# Altium footprint library 2.Capasitors.PcbLib: 33 footprints (part 2 of 3)
Each footprint in its own frame and in the unit in brackets; x right, y up, seen from the top. Pads: shape width x height; smd on the part's side, far side on the other; paste and mask are expansions set on the pad; w line width, h text height; cw(c..) or ccw(c..) is an arc to the next point about the centre after c.
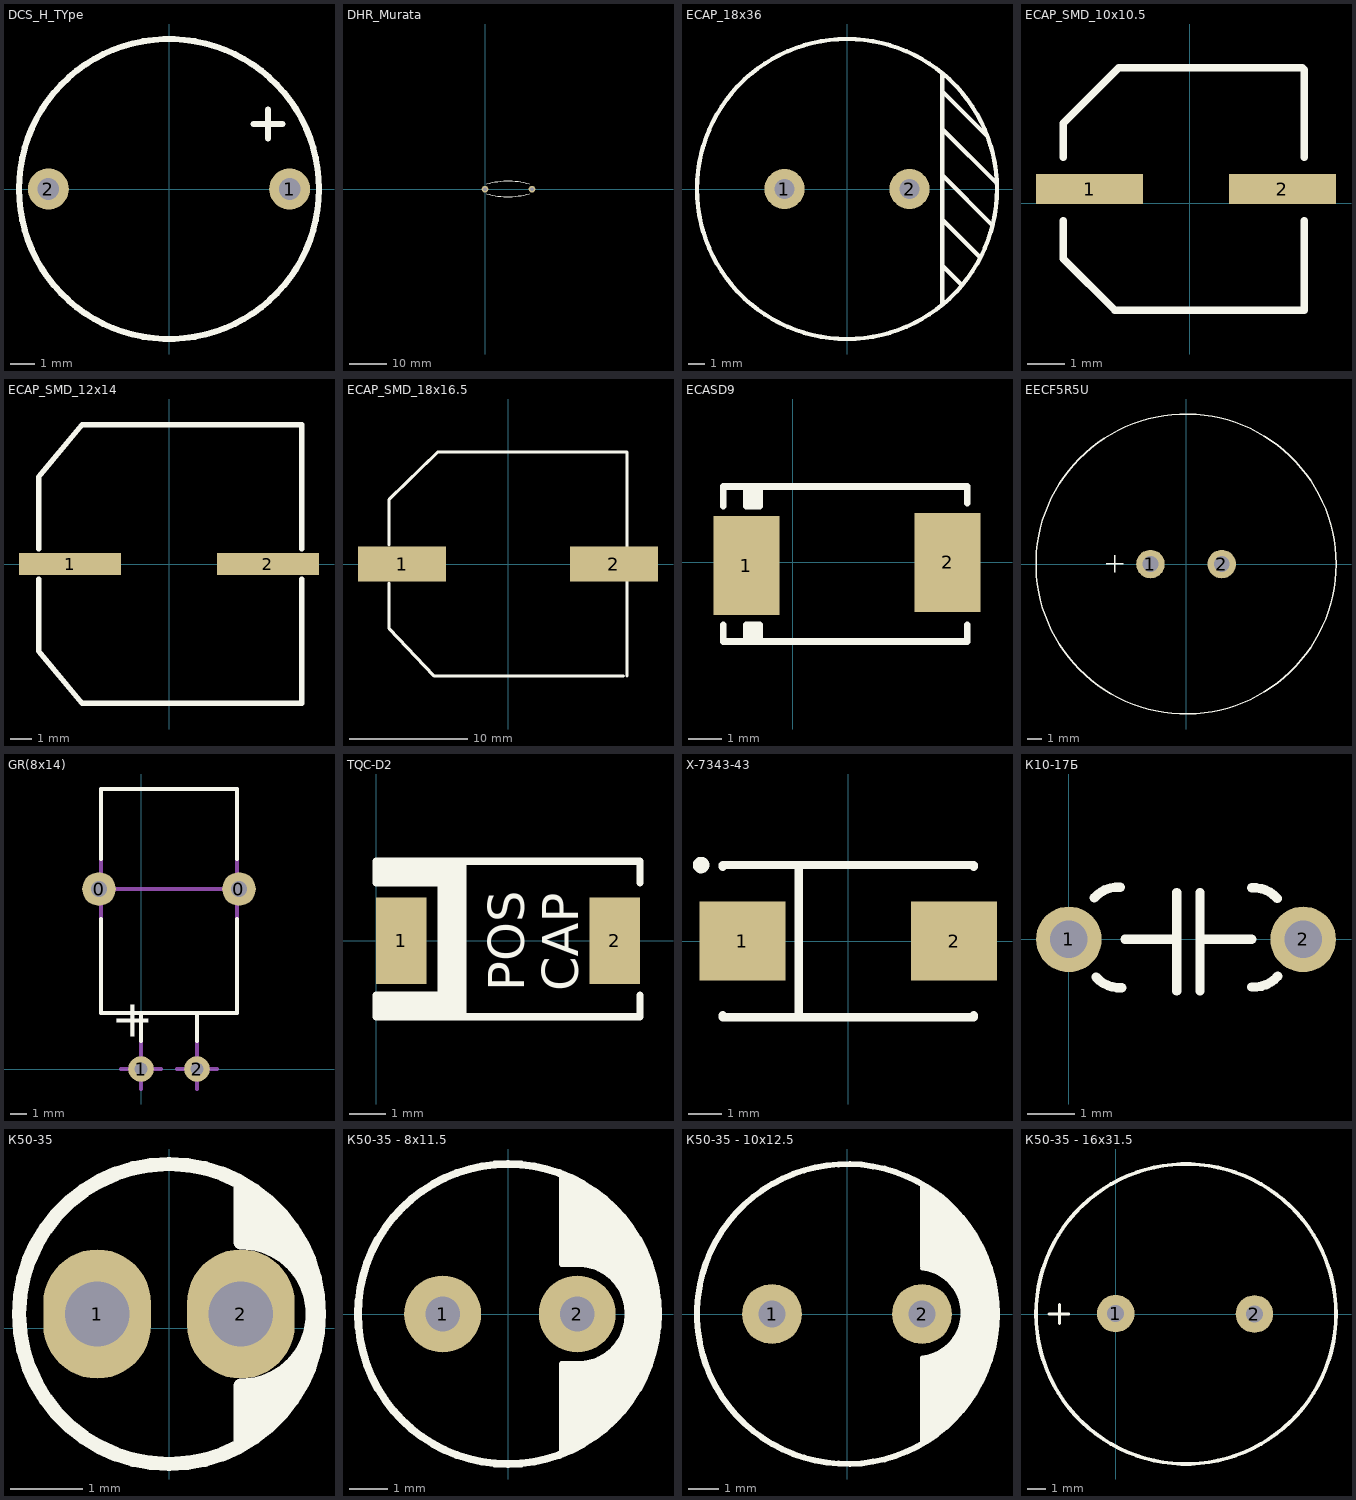
[diagram p1: the footprints below, top view; thin cyan lines are the x and y axes]

## DCS_H_TYpe [mm]
pads (2):
  round 1.7 hole 0.9: 1(5,0) 2(-5,0)
Top Overlay:
  circle w0.254: c0,0 r6.217
  lines w0.254: 3.5,2.7 4.7,2.7 ; 4.1,2.1 4.1,3.3
3D body: height 2.8, standoff 0.3, extent -5.75,-5.75 5.75,5.75

## DHR_Murata [mm]
pads (2):
  round 1.8 hole 1: 1(0,0) 2(12.7,0)
Top Overlay:
  lines w0.2: 0.4,1.3 cw(c6.231,-19.209) 12.009,1.315 ; 0.422,-1.224 ccw(c6.2,19.3) 12.031,-1.209
3D body "User Library-DEBB33A472KA3B.step": height 16, standoff -3, extent 0.3,-2.089 12.3,1.89

## ECAP_18x36 [mm]
pads (2):
  round 2.4 hole 1.2: 1(-3.75,0) 2(3.75,0)
Top Overlay:
  circle w0.254: c0,0 r9
  lines w0.254: 5.715,-6.951 5.715,6.953 ; 5.715,-4.398 5.715,-4.6 6.894,-5.779 ; 5.715,-2.669 5.715,-2.515 5.715,-1.779 5.715,-1.835 8.001,-4.121 ; 5.715,1.253 5.715,0.832 8.731,-2.184 ; 5.715,3.7 5.715,3.602 8.994,0.322 ; 5.715,4.119 5.715,4.389 ; 5.715,6.284 5.715,5.903 5.715,5.85 5.734,5.85 8.429,3.156
3D body "User Library-Cap-EL(18x36-7_5)T.STEP": height 37, standoff -3, extent -9,-9 9.002,9

## ECAP_SMD_10x10.5 [mm]
pads (2):
  rect 2.85x0.8 smd: 1(-2.667,0.381) 2(2.458,0.381)
Top Overlay:
  lines w0.2: -3.367,-0.469 -3.367,-1.469 -1.992,-2.844 3.033,-2.844 3.033,-0.469 ; -3.367,1.231 -3.367,2.131 -1.892,3.606 2.983,3.606 3.033,3.556 3.033,1.231
3D body "User Library-capacitor size D.STEP": height 5.41, standoff -0.01, extent -3.642,-2.969 3.358,3.631

## ECAP_SMD_12x14 [mm]
pads (2):
  rect 4.7x1 smd: 1(-4.55,0) 2(4.55,0)
Top Overlay:
  lines w0.254: -6,-0.7 -6,-4 -4,-6.4 6.1,-6.4 6.1,-0.7 ; -6,0.7 -6,4 -4,6.4 6.1,6.4 6.1,0.7
3D body "User Library-capasitores electroliticos.step": height 14.05, standoff 0, extent -6.8,-6.4 6.8,6.4

## ECAP_SMD_18x16.5 [mm]
pads (2):
  rect 7.5x3 smd: 1(-9,0) 2(9,0)
Top Overlay:
  lines w0.254: -10.1,-1.6 -10.1,-5.5 -6.3,-9.5 9.8,-9.5 ; -10.1,1.6 -10.1,5.5 -6,9.5 10.1,9.5 10.1,1.5 ; 10.1,-9.5 10.1,-1.5
3D body "User Library-CAP-EL_K21.STEP": height 21.01, standoff 0.01, extent -10.05,-9.5 10.05,9.5

## ECASD9 [mm]
pads (2):
  rect 2x3 smd: 1(-1.4,-0.1) 2(4.7,0)
Top Overlay:
  lines w0.2: -2.1,-1.9 -2.1,-2.4 5.3,-2.4 5.3,-1.9 ; -2.1,1.7 -2.1,2.3 5.3,2.3 5.3,1.8 ; -1.4,-2.4 -1.4,-1.9 -1.2,-1.9 ; -1.4,2.3 -1.4,1.7 -1.2,1.7 ; -1,-2.4 -1,-1.9 -1.2,-1.9 ; -1,2.2 -1,1.7 -1.2,1.7 ; -1.2,-1.9 -1.2,-2.4 -1.2,-1.9 ; -1.2,1.7 -1.2,2.2 -1.2,1.7
3D body "User Library-AVX_E_CASE.step": height 4.2, standoff 0, extent -2.1,-2.225 5.3,2.225

## EECF5R5U [mm]
pads (2):
  round 2 hole 1.1: 1(-2.5,0) 2(2.5,0)
Top Overlay:
  circle w0.1: c-0.008,0.005 r10.525
  lines w0.1: -5.6,0.025 -4.4,0.025 ; -5.002,-0.577 -5.002,0.623
3D body "User Library-Ionistor.step": height 8.01, standoff -6, extent -10.75,-10.75 10.76,10.75

## GR(8x14) [mm] "Проволока ММ-0,8 ТУ 16-705.492-2005 // Трубка ТВ-40,5 белая высшего сорта ГОСТ 19034-82// SNV"
height 10
pads (4):
  round 2.1 hole 1: 0(-2.625,11.25) 0(6.125,11.25)
  round 1.6 hole 0.8: 1(0,0) 2(3.5,0)
Top Overlay:
  lines w0.25: -2.5,9.375 -2.5,3.5 6,3.5 6,9.375 ; -2.5,13.125 -2.5,17.5 6,17.5 6,13.125 ; 0,1.75 0,3.5 ; 3.5,1.75 3.5,3.5
  text "+" at -1.875,1.25 h4
Mechanical 1:
  lines w0.25: -2.5,11.25 6,11.25 ; -1.25,0 1.25,0 ; 0,-1.25 0,0 0,3.5 ; 2.25,0 4.75,0 ; 3.5,-1.25 3.5,1.25 ; 3.5,0 3.5,3.5 ; -2.5,3.5 6,3.5 6,17.5 -2.5,17.5 -2.5,3.5
  text "+" at -1.875,0.625 h4
3D body "GR 8x12.STEP": height 9.85, standoff -2.4, extent -3.489,-0.3 6.989,17.5

## TQC-D2 [mm]
pads (2):
  rect 1.4x2.4 smd: 1(0.7,0) 2(6.6,0)
Top Overlay:
  rectangle: 1.7,-2.1 2.5,2.2
  rectangle: 0,1.5 2,2.2
  rectangle: 0,-2.1 2,-1.4
  lines w0.2: 0,-1.5 0,-2.1 7.3,-2.1 7.3,-1.5 ; 0,1.6 0,2.2 7.3,2.2 7.3,1.6
  text "POS / CAP" at 5.6,-1.4 h1
3D body "36307.stp": height 3.1, standoff 0.1, extent -0.05,-2.1 7.25,2.2

## X-7343-43 [mm] "Capacitor, SM Tantalum; Body 7.3 x 4.3 mm (LxW typ)"
height 4.3
pads (2):
  rect 2.6x2.4 smd: 1(-3.2,0) 2(3.2,0)
Top Overlay:
  circle w0.25: c-4.45,2.3 r0.125
  lines w0.254: -3.8,-2.25 -3.8,-2.3 3.8,-2.3 3.8,-2.25 ; -3.8,2.25 -3.8,2.3 3.8,2.3 3.8,2.25 ; -1.5,-2.3 -1.5,2.3
3D body "X-7343-43.STEP": height 3.91, standoff -0.04, extent -4.498,-2.316 4.498,2.337

## К10-17Б [mm]
pads (2):
  round 1.4 hole 0.8: 1(0,0) 2(5,0)
Top Overlay:
  lines w0.2: 0.546,0.887 cw(c1.05,0.45) 1.094,1.116 ; 0.581,-0.803 ccw(c1.083,-0.364) 1.13,-1.029 ; 1.2,0 2.2,0 ; 2.3,-1.1 2.3,1 ; 2.8,-1.1 2.8,1 ; 2.9,0 3.9,0 ; 3.9,1.1 cw(c3.944,0.434) 4.448,0.871 ; 3.906,-1.016 ccw(c3.95,-0.35) 4.454,-0.787
3D body "User Library-caprr500w50l400t250h654.step": height 6.54, standoff -2.5, extent -0.25,-1.3 5.25,1.2

## К50-35 [mm]
pads (2):
  oval 1.5x1.8 hole 0.9: 1(-1,0.2) 2(1,0.2)
Top Overlay:
  circle w0.2: c0,0.2 r2.088
  lines w0.2: 1,-1.6 1,-0.8 ccw(c1.005,0.2) 1,1.2 1,2 ; 1.1,-0.9 1.8,-0.5 1.4,-1.2 1.1,-1.5 1.1,-1 1.2,-1.2 1.5,-0.8 1.2,-1 ; 1.2,1.9 1.8,0.9 1.1,1.4 1.1,1.8 1.4,1.3
3D body "User Library-NICHICON_ USA1C100MCA_10MF_16V_RADIAL_Alumium Electrolytic Capacitor.step": height 7.49, standoff -1.99, extent -2.108,-1.908 2.108,2.308

## К50-35 - 8x11.5 [mm]
pads (2):
  round 2 hole 0.9: 1(-1.7,0) 2(1.8,0)
Top Overlay:
  circle w0.2: c0,0 r3.9
  region: 1.425,-1.325 1.905,-1.325 2.022,-1.319 2.252,-1.274 2.468,-1.184 2.663,-1.054 2.75,-0.975 2.834,-0.882 2.974,-0.673 3.07,-0.441 3.119,-0.195 3.125,-0.07 3.125,0.1 3.12,0.195 3.083,0.38 3.011,0.555 2.906,0.713 2.842,0.783 2.475,1.15 2.444,1.178 2.374,1.225 2.297,1.257 2.215,1.273 2.173,1.275 1.4,1.325 1.372,3.328 1.383,3.347 1.399,3.389 1.406,3.433 1.404,3.478 1.4,3.5 1.412,3.512 1.44,3.531 1.471,3.543 1.504,3.55 1.521,3.55 1.616,3.55 1.804,3.513 1.981,3.441 2.14,3.335 2.208,3.267 3.316,2.159 3.354,2.121 3.413,2.032 3.454,1.933 3.475,1.829 3.475,1.775 3.54,1.71 3.643,1.556 3.714,1.385 3.75,1.204 3.75,1.111 3.75,0.95 3.774,0.926 3.811,0.87 3.837,0.808 3.85,0.742 3.85,0.709 3.85,-0.73 3.85,-0.848 3.804,-1.079 3.714,-1.296 3.583,-1.492 3.5,-1.575 3.5,-1.664 3.465,-1.839 3.397,-2.004 3.298,-2.152 3.235,-2.215 2.261,-3.189 2.181,-3.269 1.993,-3.394 1.784,-3.481 1.563,-3.525 1.45,-3.525
  lines w0.15: 1.4,-3.6 1.4,-1.3 1.83,-1.3 ccw(c1.83,-0.03) 3.1,-0.03 3.1,0.03 ccw(c1.83,0.03) 1.83,1.3 1.4,1.3 1.4,3.6
3D body "User Library-Cap-EL(8x11_5-3_5).step": height 11.5, standoff -3.3, extent -4,-3.998 4.002,3.998

## К50-35 - 10x12.5 [mm]
pads (2):
  round 2 hole 0.9: 1(-2.5,0) 2(2.5,0)
Top Overlay:
  circle w0.2: c0,0 r5
  region: 2.494,-1.4 3.1,-1.3 3.2,-1.254 3.383,-1.133 3.539,-0.978 3.659,-0.795 3.705,-0.695 3.755,-0.632 3.835,-0.492 3.884,-0.34 3.903,-0.18 3.9,-0.1 3.9,0.299 3.881,0.399 3.815,0.592 3.713,0.767 3.578,0.92 3.5,0.985 3.481,1.028 3.438,1.111 3.388,1.19 3.331,1.265 3.3,1.3 2.494,1.5 2.494,4.2 2.631,4.201 2.898,4.139 3.144,4.018 3.355,3.843 3.438,3.734 4.169,2.7 4.265,2.587 4.425,2.336 4.548,2.066 4.634,1.782 4.657,1.635 4.69,1.58 4.742,1.462 4.777,1.338 4.794,1.211 4.794,1.146 4.794,0.985 4.818,0.962 4.855,0.906 4.881,0.843 4.894,0.777 4.894,0.744 4.894,-0.695 4.916,-0.812 4.912,-1.05 4.862,-1.283 4.768,-1.502 4.7,-1.6 4.706,-1.681 4.686,-1.843 4.634,-1.997 4.553,-2.139 4.5,-2.2 3.6,-3.4 3.513,-3.562 3.279,-3.844 2.994,-4.076 2.67,-4.248 2.494,-4.3
  lines w0.15: 2.5,-4.3 2.5,-1.5 ; 2.5,1.6 2.5,4.3 ; 2.503,1.526 cw(c2.357,0.033) 2.506,-1.459
3D body "User Library-Cap electro 10x12_5x5_0mm.step": height 13.03, standoff -3.48, extent -5.025,-5.077 5.025,4.973

## К50-35 - 16x31.5 [mm]
pads (2):
  round 2 hole 0.9: 1(0,0.025) 2(7.4,0)
Top Overlay:
  circle w0.2: c3.75,0 r8
  lines w0.15: -3.55,0 -2.5,0 ; -3,-0.5 -3,0.5
3D body "User Library-CAPAER_D160_L315_P075_W008X030.STEP": height 31.51, standoff -3, extent -4.285,-7.975 11.725,8.025